# Altium schematic symbol library MSP430FR2532.SchLib: 1 symbol
Pins are listed as number, name and electrical type; pins without a type are passive.

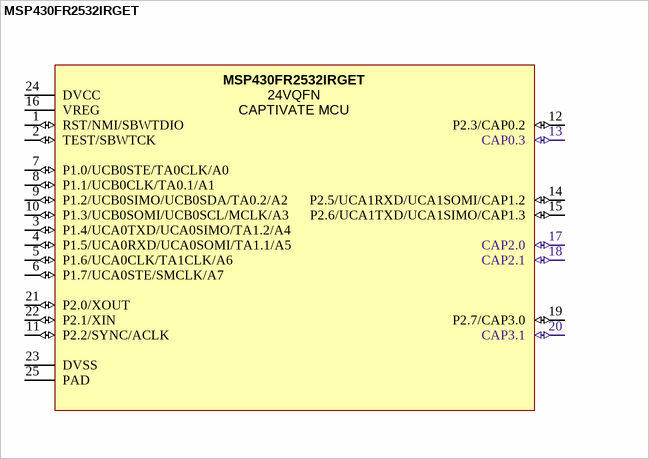
[diagram p0: symbol MSP430FR2532IRGET]

## MSP430FR2532IRGET
designator U?  Supplier Part Number 1: 2529114
MSP430 Captivate Microcontroller; Manufacturer: Texas Instruments; SymbolCreator: B.B.; CompType: IC; U/M: EA, IN, or GM; SymbolVersion: 13-09-2016; MountType: SMT; PartNumber: MSP430FR2532IRGET; PackageReference: RGE (24VQFN); ComponentLink1Description: Datasheet Link; Alternate PartNumber: -; Alternate Manufacturer: -; Supplier 1: Farnell
footprint RGE24_N (24-Pin Plastic Quad Flat No-Lead 0.5 mm Pitch, IPC Medium Density)
pins: 1 RST/NMI/SBWTDIO (io), 2 TEST/SBWTCK (io), 3 P1.4/UCA0TXD/UCA0SIMO/TA1.2/A4 (io), 4 P1.5/UCA0RXD/UCA0SOMI/TA1.1/A5 (io), 5 P1.6/UCA0CLK/TA1CLK/A6 (io), 6 P1.7/UCA0STE/SMCLK/A7 (io), 7 P1.0/UCB0STE/TA0CLK/A0 (io), 8 P1.1/UCB0CLK/TA0.1/A1 (io), 9 P1.2/UCB0SIMO/UCB0SDA/TA0.2/A2 (io), 10 P1.3/UCB0SOMI/UCB0SCL/MCLK/A3 (io), 11 P2.2/SYNC/ACLK (io), 12 P2.3/CAP0.2 (io), 13 CAP0.3 (io), 14 P2.5/UCA1RXD/UCA1SOMI/CAP1.2 (io), 15 P2.6/UCA1TXD/UCA1SIMO/CAP1.3 (io), 16 VREG (power), 17 CAP2.0 (io), 18 CAP2.1 (io), 19 P2.7/CAP3.0 (io), 20 CAP3.1 (io), 21 P2.0/XOUT (io), 22 P2.1/XIN (io), 23 DVSS (power), 24 DVCC (power), 25 PAD (power)
text: 24VQFN; CAPTIVATE MCU